# Altium schematic symbol library 74HC138.Schlib: 1 symbol
Pins are listed as number, name and electrical type; pins without a type are passive.

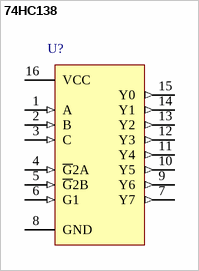
[diagram p0: symbol 74HC138]

## 74HC138
designator U?  (value not drawn)
3:8 Decoder
pins: 1 A (in), 2 B (in), 3 C (in), 4 ~{G}2A (in), 5 ~{G}2B (in), 6 G1 (in), 7 Y7 (out), 8 GND (power), 9 Y6 (out), 10 Y5 (out), 11 Y4 (out), 12 Y3 (out), 13 Y2 (out), 14 Y1 (out), 15 Y0 (out), 16 VCC (power)